# EAGLE library part ADG1636 (library IPNS_Lib)
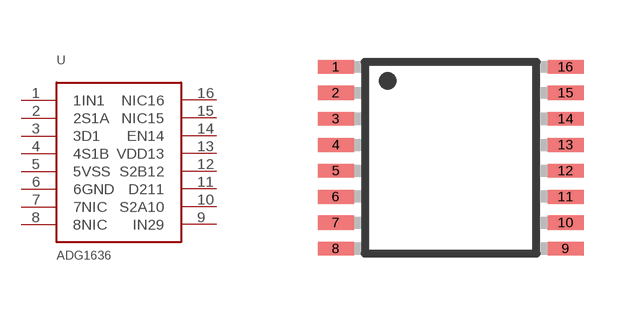
[diagram p9: symbol with the pads of TSSOP16; footprint TSSOP16]

Designator prefix -

## ADG1636  [TSSOP16]
1  1IN1
2  2S1A
3  3D1
4  4S1B
5  5VSS
6  6GND
7  7NIC
8  8NIC
9  IN29
10  S2A10
11  D211
12  S2B12
13  VDD13
14  EN14
15  NIC15
16  NIC16

## Footprint TSSOP16 (pad centres in mm)
16-Lead Thin Shrink Small Outline Package [TSSOP] (RU-16) Source: 8x ADG1408_1409.pdf
smd 0.9 x 0.35: 1 -2.875,2.275; 2 -2.875,1.625; 3 -2.875,0.975; 4 -2.875,0.325; 5 -2.875,-0.325; 6 -2.875,-0.975; 7 -2.875,-1.625; 8 -2.875,-2.275; 9 2.875,-2.275; 10 2.875,-1.625; 11 2.875,-0.975; 12 2.875,-0.325; 13 2.875,0.325; 14 2.875,0.975; 15 2.875,1.625; 16 2.875,2.275